# Altium footprint library HFV7-P.PcbLib: 1 footprints
Each footprint in its own frame and in the unit in brackets; x right, y up, seen from the top. Pads: shape width x height; smd on the part's side, far side on the other; paste and mask are expansions set on the pad; w line width, h text height; cw(c..) or ccw(c..) is an arc to the next point about the centre after c.
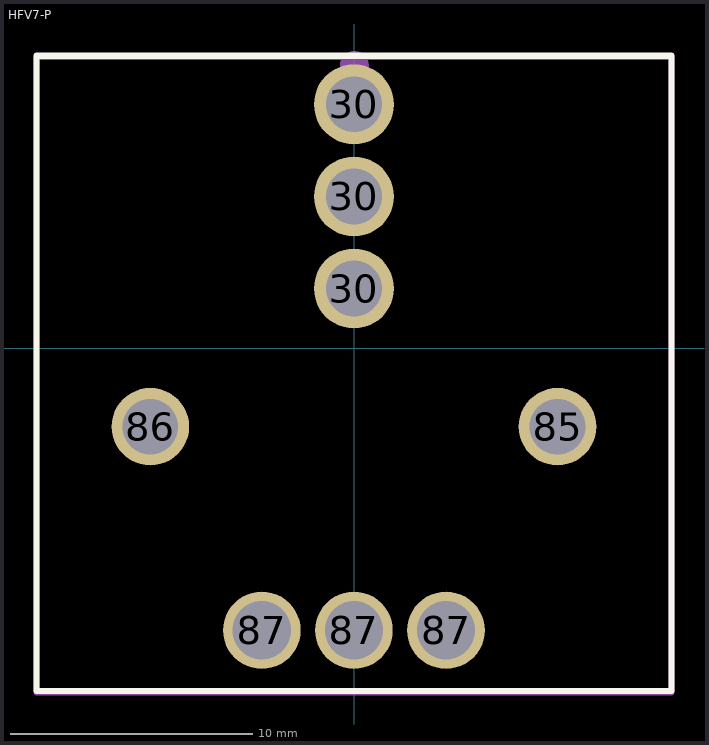
[diagram p0: the footprint, top view; thin cyan lines are the x and y axes]

## HFV7-P [mm]
pads (8):
  round 3.3 hole 2.3 paste+0 mask+0.051: 30(-0.008,2.454) 30(-0.008,6.254) 30(-0.008,10.054)
  round 3.2 hole 2.3 paste+0 mask+0.051: 85(8.392,-3.246) 86(-8.408,-3.246)
  round 3.2 hole 2.4 paste+0 mask+0.051: 87(-3.808,-11.646) 87(-0.008,-11.646) 87(3.792,-11.646)
Top Overlay:
  lines w0.254: -13.108,-14.146 13.092,-14.146 ; -13.106,-14.145 -13.106,12.055 13.091,12.055 13.091,-14.145
Top Assembly:
  lines w0.254: -13.1,-14.2 13.1,-14.2 13.1,12 -13.1,12 -13.1,-14.2
  text "'.Designator'" at 0,0 h0.7
Mechanical 15:
  circle w0.6: c0.008,11.65 r0.3
3D body "User Library-HFV7-P-2.STEP": height 26.5, standoff -3.8, extent -13.1,-14.2 13.1,12